# Altium schematic symbol library Relay.SchLib: 4 symbols
Pins are listed as number, name and electrical type; pins without a type are passive.

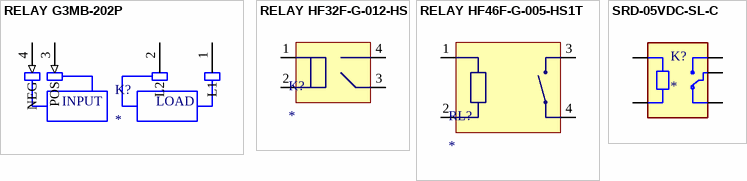
[diagram p0: symbols RELAY G3MB-202P to SRD-05VDC-SL-C]

## RELAY G3MB-202P
designator K?
Solid State Relay; MF: Omron Automation; MP: G3MB-202P; Package: SIP-4 Omron Automation; Purchase-URL: https://pricing.snapeda.com/search/part/G3MB-202P/?ref=eda; Value: *; Availability: In Stock; SnapEDA_Link: https://www.snapeda.com/parts/G3MB-202P/Omron+Automation+and+Safety/view-part/?ref=snap; Price: None; Check_prices: https://www.snapeda.com/parts/G3MB-202P/Omron+Automation+and+Safety/view-part/?ref=eda
footprint RELAY_G3MB-202P
pins: 1 L1, 2 L2, 3 POS (in), 4 NEG (in)
text: INPUT; LOAD

## RELAY HF32F-G-012-HS
designator K?
footprint RELAY HF32F-G-012-HS
pins: 1, 2, 3 AC/DC, 4 AC/DC

## RELAY HF46F-G-005-HS1T
designator RL?
MF: Hongfa; MP: HF46F; Package: None; Price: None; Value: *; SnapEDA_Link: https://www.snapeda.com/parts/HF46F/Hongfa/view-part/?ref=snap; Availability: Not in stock; Check_prices: https://www.snapeda.com/parts/HF46F/Hongfa/view-part/?ref=eda
footprint RELAY HF46F-G-005-HS1T
pins: 1, 2, 3 AC/DC, 4 AC/DC

## SRD-05VDC-SL-C
designator K?
5V Trigger Relay Module For Arduino And Raspberry Pi 5V Trigger Relay Module For Arduino And Raspberry Pi; MF: Songle Relay; MP: SRD-05VDC-SL-C; Value: *; Price: None; Package: NON STANDARD-5 Songle Relay; Availability: Not in stock; Check_prices: https://www.snapeda.com/parts/SRD-05VDC-SL-C/Songle+Relay/view-part/?ref=eda; SnapEDA_Link: https://www.snapeda.com/parts/SRD-05VDC-SL-C/Songle+Relay/view-part/?ref=snap
footprint RELAY_SRD-05VDC-SL-C
pins: A1, A2, COM, NC, NO